# EAGLE library part 693010020611 (library Wurth_Connectors_WR-CRD)
WR-CRD SIM Card Connector (Mini SIM) Header Shielded - 6 pins KIND PROPERTIES Gender:Socket Type:Header General Information Operating Temperature:-25 up to +85 °C Compliance:RoHS Electrical Properties IR 1:0.5A Working Voltage:50V (AC) Withstanding Voltage:500V (AC) Contact Resistance:50mΩ Material Properties Insulator MateriaL:LCP Insulator Flammability Rating:UL94 V-0 Color:Black Contact Material:Copper Alloy Contact Plating:elective Gold Contact Type:Stamped Shielding Material:Stainless Steel <https://www.we-online.com/components/media/o33072v209%20Family_WR-CRD_SIM%20Kartensockel_geschirmt_693010020611.jpg> Details see: www.we-online.com/en/components/products/CRD_MINI_SIM_HEADER_SHIELDED_6_PINS Updated by Ella Wu 2021-05-27 2021 (C) Würth Elektronik
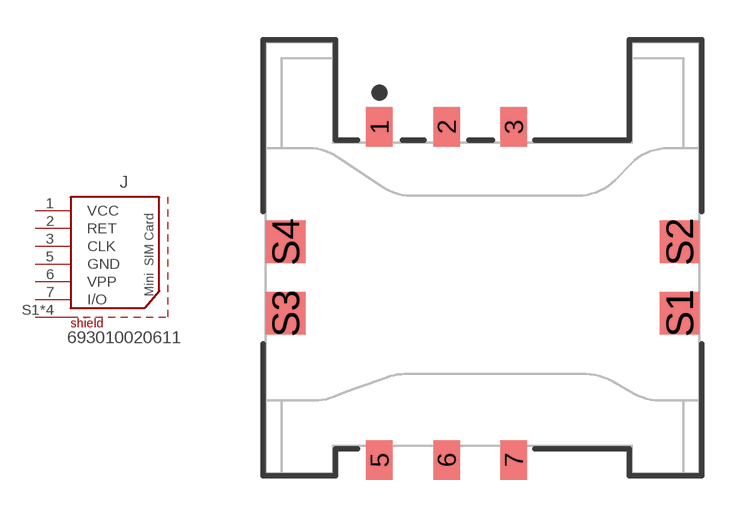
[diagram p7: symbol with the pads of 693010020611; footprint 693010020611]

Designator prefix J

## 693010020611 (DATASHEET-URL: https://www.we-online.com/redexpert/spec/693010020611?ae; GERDER: Socket; IR: 0.5A; MOUNT: SMT; PART-NUMBER: 693010020611; PINS: 6; TYPE: Header; VALUE: 693010020611; WORKING-VOLTAGE: 50V(AC))  [693010020611]
1  VCC
2  RET
3  CLK
5  GND
6  VPP
7  I/O
S1  SHIELD
S2  SHIELD
S3  SHIELD
S4  SHIELD

## Footprint 693010020611 (pad centres in mm)
WR-CRD SIM Card Connector (Mini SIM) Header Shielded ,6Pins
smd 1 x 1.5: 1 -3.9,4.95; 2 -1.36,4.95; 3 1.18,4.95; 5 -3.9,-7.65; 6 -1.36,-7.65; 7 1.18,-7.65
smd 1.5 x 1.6: S1 7.45,-2.1; S2 7.45,0.6; S3 -7.45,-2.1; S4 -7.45,0.6